# Altium schematic symbol library SCH - CONNECTORS - 22 PIN.SCHLIB: 1 symbol
Pins are listed as number, name and electrical type; pins without a type are passive.

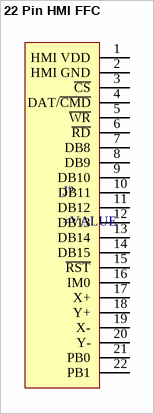
[diagram p0: symbol 22 Pin HMI FFC]

## 22 Pin HMI FFC
designator J?
pins: 1 HMI VDD, 2 HMI GND, 3 ~{CS}, 4 DAT/~{CMD}, 5 ~{WR}, 6 ~{RD}, 7 DB8, 8 DB9, 9 DB10, 10 DB11, 11 DB12, 12 DB13, 13 DB14, 14 DB15, 15 ~{RST}, 16 IM0, 17 X+, 18 Y+, 19 X-, 20 Y-, 21 PB0, 22 PB1
1 alternate drawing of the same symbol